# EAGLE library part TPS54040 (library ANIMAlib)
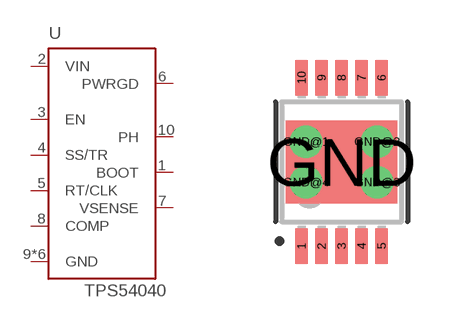
[diagram p29: symbol with the pads of MSOP-10-GNDPAD; footprint MSOP-10-GNDPAD]

Designator prefix U

## TPS54040  [MSOP-10-GNDPAD]
1  BOOT  out
2  VIN  in
3  EN  in
4  SS/TR
5  RT/CLK
6  PWRGD  out
7  VSENSE  in
8  COMP
9  GND  pwr
10  PH  out
GND  GND  pwr
GND@1  GND  pwr
GND@2  GND  pwr
GND@3  GND  pwr
GND@4  GND  pwr

## Footprint MSOP-10-GNDPAD (pad centres in mm)
10-lead MSOP w/ center GND pad
smd 0.305 x 0.889: 1 -1,-2.11; 2 -0.5,-2.11; 3 0,-2.11; 4 0.5,-2.11; 5 1,-2.11; 6 1,2.11; 7 0.5,2.11; 8 0,2.11; 9 -0.5,2.11; 10 -1,2.11
smd 2.794 x 2.083: GND 0,0
drill 0.305: GND@1 -0.889,0.508; GND@2 0.889,0.508; GND@3 0.889,-0.508; GND@4 -0.889,-0.508